# EAGLE library part ADG3308 (library Lepton_v5)
bidirectional voltage level translator. CMOS outputs, cannot use pullups (no I2C).
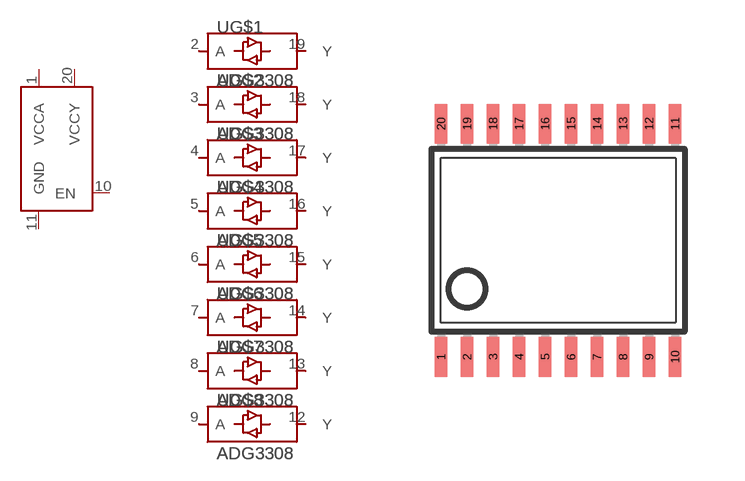
[diagram p1: symbol with the pads of TSSOP20; footprint TSSOP20]

Designator prefix -; gates G$1=BIDIR G$2=BIDIR G$3=BIDIR G$4=BIDIR G$5=BIDIR G$6=BIDIR G$7=BIDIR G$8=BIDIR G$9=AY_PWR_EN

## ADG3308  [TSSOP20]
1  G$9:VCCA  pwr
2  G$1:A
3  G$2:A
4  G$3:A
5  G$4:A
6  G$5:A
7  G$6:A
8  G$7:A
9  G$8:A
10  G$9:EN  in
11  G$9:GND  pwr
12  G$8:Y
13  G$7:Y
14  G$6:Y
15  G$5:Y
16  G$4:Y
17  G$3:Y
18  G$2:Y
19  G$1:Y
20  G$9:VCCY  pwr

## Footprint TSSOP20 (pad centres in mm)
Thin Shrink Small Outline Plastic 20
smd 0.305 x 0.991: 1 -2.925,-2.918; 2 -2.275,-2.918; 3 -1.625,-2.918; 4 -0.975,-2.918; 5 -0.325,-2.918; 6 0.325,-2.918; 7 0.975,-2.918; 8 1.625,-2.918; 9 2.275,-2.918; 10 2.925,-2.918; 11 2.925,2.918; 12 2.275,2.918; 13 1.625,2.918; 14 0.975,2.918; 15 0.325,2.918; 16 -0.325,2.918; 17 -0.975,2.918; 18 -1.625,2.918; 19 -2.275,2.918; 20 -2.925,2.918